# EAGLE library part BOARD_ARDUINO-MEGA (library Clean-Kong)
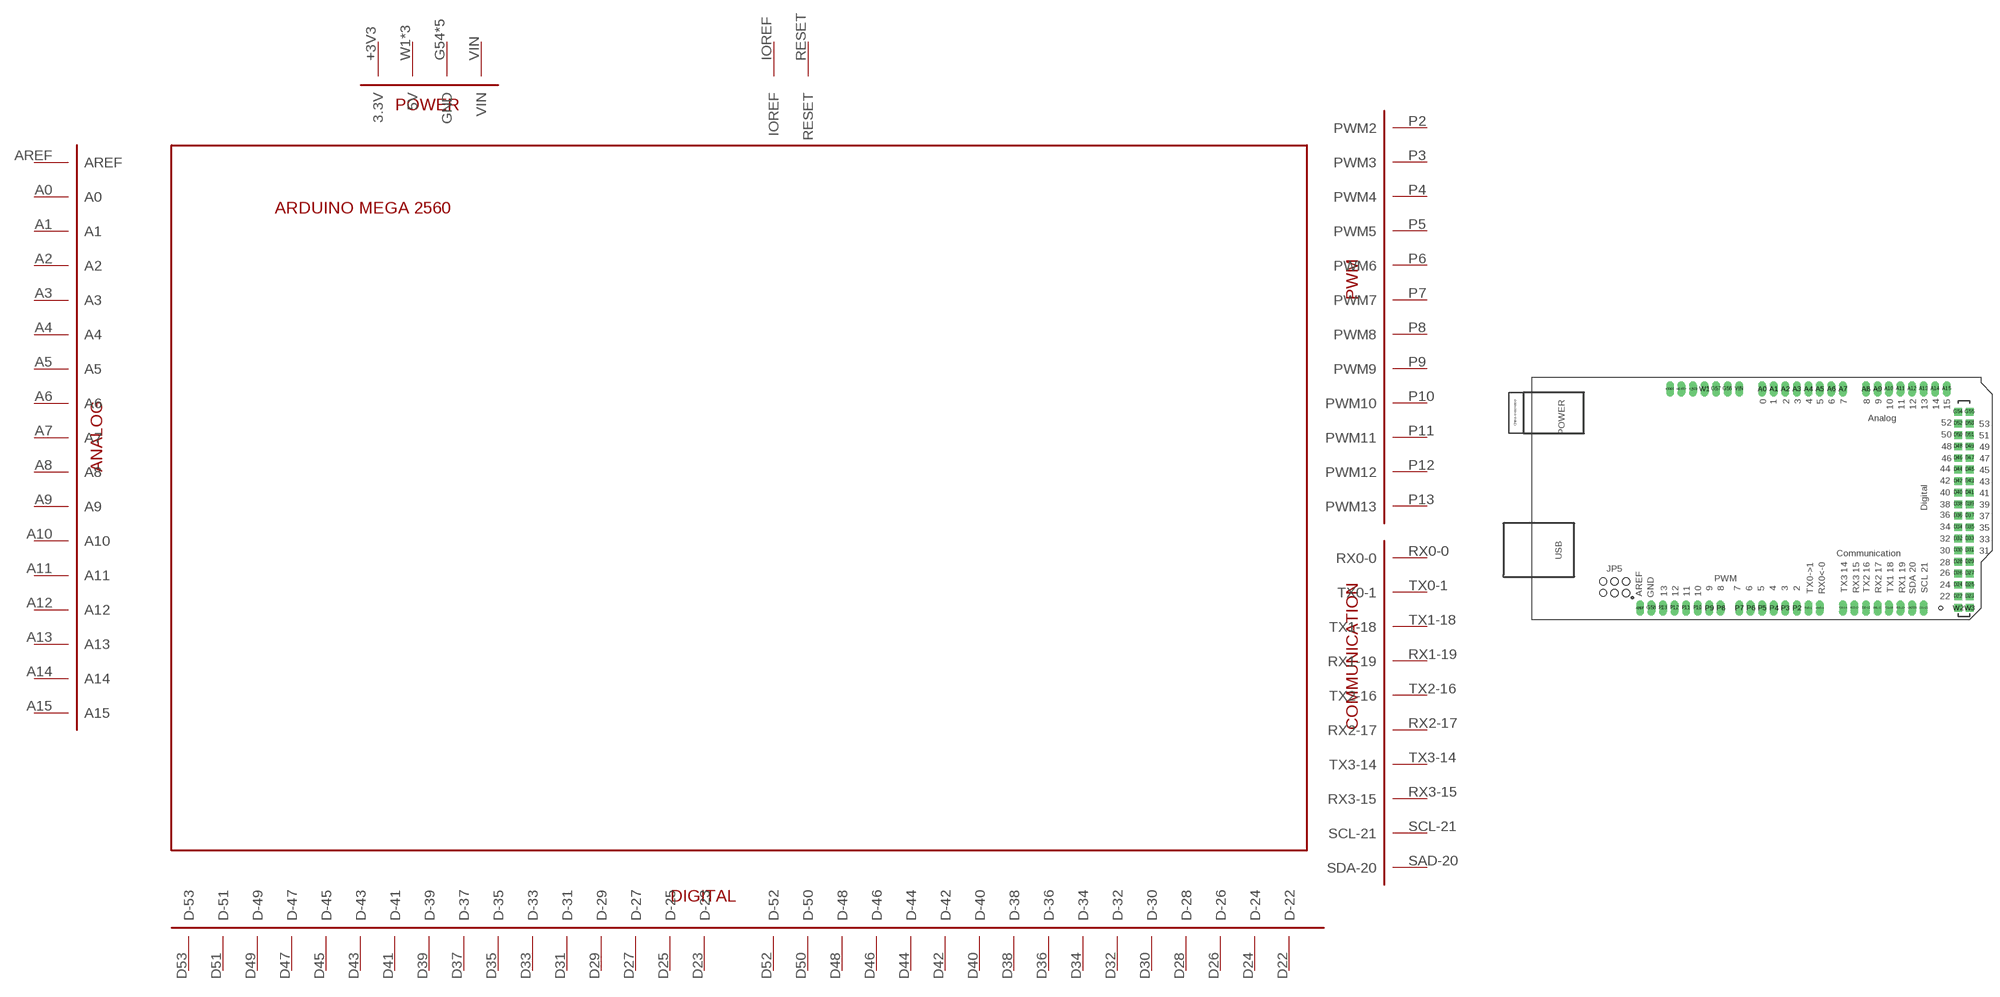
[diagram p6: symbol with the pads of BOARD_ARDUINO_MEGA; footprint BOARD_ARDUINO_MEGA]

Designator prefix -

## BOARD_ARDUINO-MEGA  [BOARD_ARDUINO_MEGA]
+3V3  3.3V  pwr
A0  A0
A1  A1
A2  A2
A3  A3
A4  A4
A5  A5
A6  A6
A7  A7
A8  A8
A9  A9
A10  A10
A11  A11
A12  A12
A13  A13
A14  A14
A15  A15
AREF  AREF
D22  D-22
D23  D-23
D24  D-24
D25  D-25
D26  D-26
D27  D-27
D28  D-28
D29  D-29
D30  D-30
D31  D-31
D32  D-32
D33  D-33
D34  D-34
D35  D-35
D36  D-36
D37  D-37
D38  D-38
D39  D-39
D40  D-40
D41  D-41
D42  D-42
D43  D-43
D44  D-44
D45  D-45
D46  D-46
D47  D-47
D48  D-48
D49  D-49
D50  D-50
D51  D-51
D52  D-52
D53  D-53
G54  GND  pwr
G55  GND  pwr
G56  GND  pwr
G57  GND  pwr
G58  GND  pwr
IOREF  IOREF
P2  PWM2
P3  PWM3
P4  PWM4
P5  PWM5
P6  PWM6
P7  PWM7
P8  PWM8
P9  PWM9
P10  PWM10
P11  PWM11
P12  PWM12
P13  PWM13
RESET  RESET
RX0-0  RX0-0
RX1-19  RX1-19
RX2-17  RX2-17
RX3-15  RX3-15
SAD-20  SDA-20
SCL-21  SCL-21
TX0-1  TX0-1
TX1-18  TX1-18
TX2-16  TX2-16
TX3-14  TX3-14
VIN  VIN  pwr
W1  5V  pwr
W2  5V  pwr
W3  5V  pwr

## Footprint BOARD_ARDUINO_MEGA (pad centres in mm)
drill 1 pad 1.676 long: +3V3 35.56,50.8; A0 50.8,50.8; A1 53.34,50.8; A2 55.88,50.8; A3 58.42,50.8; A4 60.96,50.8; A5 63.5,50.8; A6 66.04,50.8; A7 68.58,50.8; A8 73.66,50.8; A9 76.2,50.8; A10 78.74,50.8; A11 81.28,50.8; A12 83.82,50.8; A13 86.36,50.8; A14 88.9,50.8; A15 91.44,50.8; AREF 23.876,2.54; G56 43.18,50.8; G57 40.64,50.8; G58 26.416,2.54; IOREF 30.48,50.8; P2 58.42,2.54; P3 55.88,2.54; P4 53.34,2.54; P5 50.8,2.54; P6 48.26,2.54; P7 45.72,2.54; P8 41.656,2.54; P9 39.116,2.54; P10 36.576,2.54; P11 34.036,2.54; P12 31.496,2.54; P13 28.956,2.54; RESET 33.02,50.8; RX0-0 63.5,2.54; RX1-19 81.28,2.54; RX2-17 76.2,2.54; RX3-15 71.12,2.54; SAD-20 83.82,2.54; SCL-21 86.36,2.54; TX0-1 60.96,2.54; TX1-18 78.74,2.54; TX2-16 73.66,2.54; TX3-14 68.58,2.54; VIN 45.72,50.8; W1 38.1,50.8
drill 1 pad 1.676 square: D22 93.98,5.08; D23 96.52,5.08; D24 93.98,7.62; D25 96.52,7.62; D26 93.98,10.16; D27 96.52,10.16; D28 93.98,12.7; D29 96.52,12.7; D30 93.98,15.24; D31 96.52,15.24; D32 93.98,17.78; D33 96.52,17.78; D34 93.98,20.32; D35 96.52,20.32; D36 93.98,22.86; D37 96.52,22.86; D38 93.98,25.4; D39 96.52,25.4; D40 93.98,27.94; D41 96.52,27.94; D42 93.98,30.48; D43 96.52,30.48; D44 93.98,33.02; D45 96.52,33.02; D46 93.98,35.56; D47 96.52,35.56; D48 93.98,38.1; D49 96.52,38.1; D50 93.98,40.64; D51 96.52,40.64; D52 93.98,43.18; D53 96.52,43.18; G54 93.98,45.72; G55 96.52,45.72; W2 93.98,2.54; W3 96.52,2.54